# Altium schematic symbol library STM32F1_CNC_Schlib.SchLib: 6 symbols
Pins are listed as number, name and electrical type; pins without a type are passive.

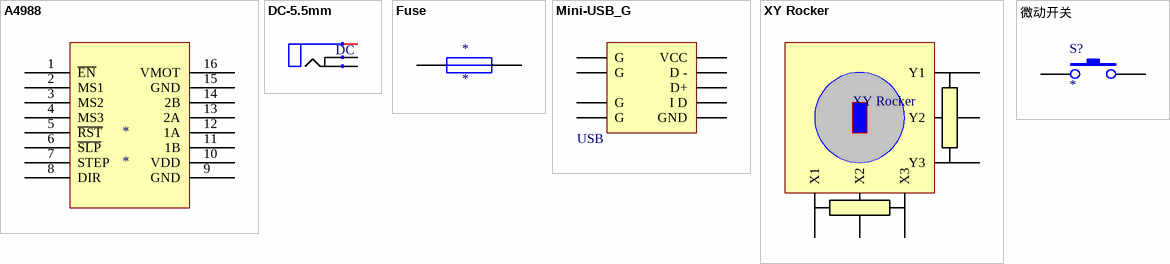
[diagram p0: symbols A4988 to 微动开关]

## A4988
designator *
footprint A4988
pins: 1 ~{EN}, 2 MS1, 3 MS2, 4 MS3, 5 ~{RST}, 6 ~{SLP}, 7 STEP, 8 DIR, 9 GND, 10 VDD, 11 1B, 12 1A, 13 2A, 14 2B, 15 GND, 16 VMOT

## DC-5.5mm
designator DC, comment DC  (value not drawn)
footprint DC7-12V
pins: 1 (power), 2 (power), 3 (power)

## Fuse
designator *
pins: 1, 2

## Mini-USB_G
designator USB, comment USB  (value not drawn)
footprint PCBComponent_1
pins: 0 G, 0 G, 0 G, 0 G, 1 VCC, 2 D -, 3 D+, 4 I D, 5 GND

## XY Rocker
designator XY Rocker
footprint XY Rocker
pins: X1, X2, X3, Y1, Y2, Y3

## 微动开关
designator S?
pins: 1, 2